# Altium schematic symbol library Analog.SchLib: 17 symbols
Pins are listed as number, name and electrical type; pins without a type are passive.

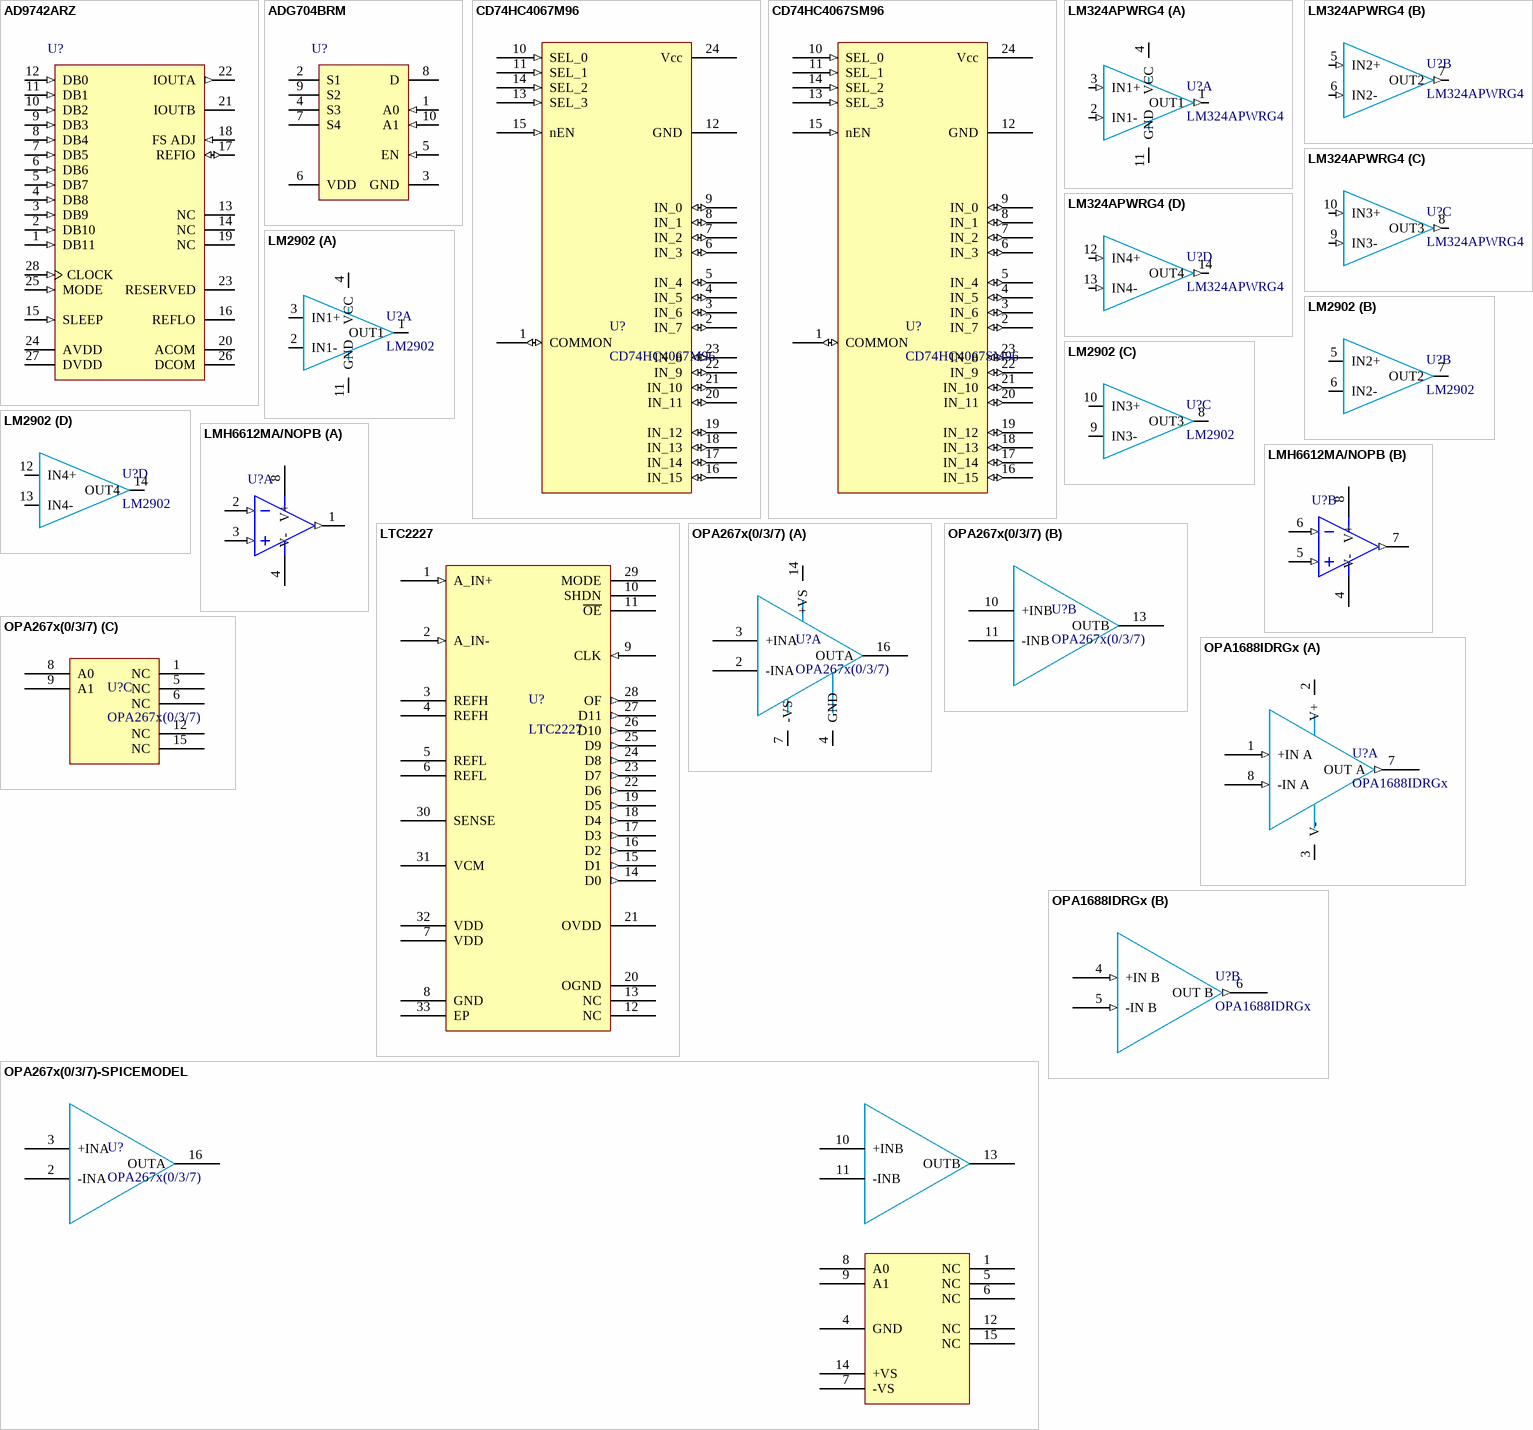
[diagram p0: symbols AD9742ARZ to OPA1688IDRGx]

## AD9742ARZ
designator U?
Single 12-Bit TxDAC, 210 Msps, -40 to +85 degC, RW-28, Pb-Free, Tube; Generic Part Number: AD9742; Manufacturer: Analog Devices; PartNumber: AD9742ARZ; # DAC Outputs: 1; Max V+: 3.6V; Op Pwr Diss: 145mW; Resolution (Bits): 12; Settling Time: 11ns; Single Supply: NO; DatasheetVersion: Rev.B; PackageVersion: 060706-A; PackageReference: RW-28; PackageDescription: 28-Lead Standard Small Outline Package [SOIC_W]; Supplier 1: Digi-Key; Supplier Part Number 1: AD9742ARZ-ND; Supplier 2: Mouser; Supplier Part Number 2: 584-AD9742ARZ; Packing: Tube; RoHS: Y; Mounting Technology: Surface Mount; Code_JEDEC: MS-013-AE; ComponentLink1Description: Manufacturer URL; ComponentLink1URL: http://www.analog.com/en/index.html; ComponentLink2Description: Datasheet; ComponentLink2URL: http://www.analog.com/static/imported-files/data_sheets/AD9742.pdf; ComponentLink3Description: Product URL; ComponentLink3URL: http://www.analog.com/en/digital-to-analog-converters/da-converters/ad9742/products/product.html
footprint RW-28_M (SOIC, 28-Leads, Body 17.9x7.5mm, Pitch 1.27mm, IPC Low Density)
pins: 1 DB11 (in) "Most Significant Data Bit (MSB).", 2 DB10 (in) "Data Bit 10", 3 DB9 (in) "Data Bit 9", 4 DB8 (in) "Data Bit 8", 5 DB7 (in) "Data Bit 7", 6 DB6 (in) "Data Bit 6", 7 DB5 (in) "Data Bit 5", 8 DB4 (in) "Data Bit 4", 9 DB3 (in) "Data Bit 3", 10 DB2 (in) "Data Bit 2", 11 DB1 (in) "Data Bit 1", 12 DB0 (in) "Least Significant Data Bit (LSB).", 13 NC "No Internal Connection.", 14 NC "No Internal Connection.", 15 SLEEP (in) "Power-Down Control Input. Active high. Contains active pull-down circuit; it may be left unterminated if not used.", 16 REFLO "Reference Ground when Internal 1.2 V Reference Used. Connect to AVDD to disable internal reference.", 17 REFIO (io) "Reference Input/Output. Serves as reference input when internal reference disabled (i.e., tie REFLO to AVDD). Serves as 1.2 V reference output when internal reference activated (i.e., tie REFLO to ACOM). Requires 0.1 uF (See Datasheet)", 18 FS ADJ (in) "Full-Scale Current Output Adjust.", 19 NC "No Internal Connection.", 20 ACOM (power) "Analog Common.", 21 IOUTB "Complementary DAC Current Output. Full-scale current when all data bits are 0s.", 22 IOUTA (out) "DAC Current Output. Full-scale current when all data bits are 1s.", 23 RESERVED "Reserved. Do not connect to common or supply.", 24 AVDD (power) "Analog Supply Voltage (3.3 V).", 25 MODE (in) "Selects Input Data Format. Connect to DCOM for straight binary, DVDD for twos complement.", 26 DCOM (power) "Digital Common.", 27 DVDD (power) "Digital Supply Voltage (3.3 V).", 28 CLOCK (in) "Clock Input. Data latched on positive edge of clock."

## ADG704BRM
designator U?
CMOS Low Voltage 4 Ohm, 4-Channel Multiplexer, -40 to 85 degC, 10-pin SOP (RM-10), Tube; Manufacturer: Analog Devices; PartNumber: ADG704BRM; Bandwidth (Hz): 200M; Max Analog Signal Range: 0 to Vdd; Ron (ohms): 4; Supply V Guar Performance: Single_(+3.3V), Single_(+3V), Single_(+5V); DatasheetVersion: Rev. A; PackageVersion: Aug-05; PackageReference: RM-10; PackageDescription: 10-Pin Mini Small Outline Package, Body 3 x 3 mm, Pitch 0.5 mm; Packing: Tube; Mounting Technology: Surface Mount; Code_JEDEC: MO-187-BA; ComponentLink1Description: Manufacturer URL; ComponentLink1URL: http://www.analog.com/en/index.html; ComponentLink2Description: Datasheet; ComponentLink2URL: http://www.analog.com/static/imported-files/data_sheets/ADG704.pdf; ComponentLink3Description: Package Specification; ComponentLink3URL: http://www.analog.com/static/imported-files/packages/PKG_PDF/MSOP%28RM%29/RM_10.pdf; Supplier 1: Digi-Key; Supplier Part Number 1: ADG704BRMZ-REELCT-ND; Supplier 2: Digi-Key; Supplier Part Number 2: ADG704BRMZ-REEL7CT-ND
footprint ADI-RM-10_N (SOP, 10-Leads, Body 3x3mm, Pitch 0.5mm, IPC Medium Density)
footprint ADI-RM-10_L (SOP, 10-Leads, Body 3x3mm, Pitch 0.5mm, IPC High Density)
footprint ADI-RM-10_M (SOP, 10-Leads, Body 3x3mm, Pitch 0.5mm, IPC Low Density)
pins: 1 A0 (in) "Logic control input.", 2 S1 "Source terminal. May be an input or output.", 3 GND (power) "Ground (0 V) reference.", 4 S3 "Source terminal. May be an input or output.", 5 EN (in) "Logic control input.", 6 VDD (power) "Most positive power supply potential.", 7 S4 "Source terminal. May be an input or output.", 8 D "Drain terminal. May be an input or output.", 9 S2 "Source terminal. May be an input or output.", 10 A1 (in) "Logic control input."

## CD74HC4067M96
designator U?
16:1 Analog Multiplexer
footprint CD74HC4067M96 (SOIC, 24-Leads, Body 15.6x7.6mm (max), Pitch 1.27mm, IPC Medium Density)
pins: 1 COMMON (io), 2 IN_7 (io), 3 IN_6 (io), 4 IN_5 (io), 5 IN_4 (io), 6 IN_3 (io), 7 IN_2 (io), 8 IN_1 (io), 9 IN_0 (io), 10 SEL_0 (in), 11 SEL_1 (in), 12 GND, 13 SEL_3 (in), 14 SEL_2 (in), 15 nEN (in), 16 IN_15 (io), 17 IN_14 (io), 18 IN_13 (io), 19 IN_12 (io), 20 IN_11 (io), 21 IN_10 (io), 22 IN_9 (io), 23 IN_8 (io), 24 Vcc (power)

## CD74HC4067SM96
designator U?
16:1 Analog Multiplexer, TSSOP
footprint CD74HC7067SM96 - SOP65P780X200-24M (SOP, 24-Leads, Body 8.20x5.30mm, Pitch 0.65mm, IPC Low Density)
pins: 1 COMMON (io), 2 IN_7 (io), 3 IN_6 (io), 4 IN_5 (io), 5 IN_4 (io), 6 IN_3 (io), 7 IN_2 (io), 8 IN_1 (io), 9 IN_0 (io), 10 SEL_0 (in), 11 SEL_1 (in), 12 GND, 13 SEL_3 (in), 14 SEL_2 (in), 15 nEN (in), 16 IN_15 (io), 17 IN_14 (io), 18 IN_13 (io), 19 IN_12 (io), 20 IN_11 (io), 21 IN_10 (io), 22 IN_9 (io), 23 IN_8 (io), 24 Vcc (power)

## LM324APWRG4
designator U?
Quad Op Amp, 1.2MHz GBW, Rail-To-Rail, Unity Gain Stable; Supplier 1: Digi-Key; Supplier Part Number 1: 497-5831-1-ND; Supplier 2: Arrow; Supplier Part Number 2: kcukb6eEdPZnFyyQZg6o_H0a3uSSk36WcdUz9bD5I_s
footprint TSV994 - TSOP65P640X120-14N (TSOP, 14-Leads, Body 5.00x4.40mm, Pitch 0.65mm, IPC Medium Density)
simulation model LMX24_LM2902 (Model Description)
part A pins: 1 OUT1 (out), 2 IN1- (in), 3 IN1+ (in), 4 VCC (power), 11 GND
part B pins: 5 IN2+ (in), 6 IN2- (in), 7 OUT2 (out)
part C pins: 8 OUT3 (out), 9 IN3- (in), 10 IN3+ (in)
part D pins: 12 IN4+ (in), 13 IN4- (in), 14 OUT4 (out)

## LM2902
designator U?
Quad Op Amp, 1.3MHz GBW, 1.5mA Iq; Supplier 1: Digi-Key; Supplier Part Number 1: 497-1557-1-ND; Supplier 2: Arrow; Supplier Part Number 2: TIXsWa_K9KWKR9FupLiCiI8YUJJkDQVhJaEjFo9D4rQ
footprint LM2902 - SOIC127P600X175-14N (SOIC, 14-Leads, Body 8.65x3.90mm, Pitch 1.27mm, IPC Medium Density)
simulation model LM2902 (OpAmp)
part A pins: 1 OUT1, 2 IN1-, 3 IN1+, 4 VCC, 11 GND
part B pins: 5 IN2+, 6 IN2-, 7 OUT2
part C pins: 8 OUT3, 9 IN3-, 10 IN3+
part D pins: 12 IN4+, 13 IN4-, 14 OUT4

## LMH6612MA/NOPB
designator U?
Single Supply, Dual 345 MHz Rail-to-Rail Output Amplifier, 8-pin Narrow SOIC, Pb-Free; PartNumber: LMH6612MA/NOPB; Manufacturer: National Semiconductor; PackageTopMarking: NSZXTT*LMH66*12MA; PowerWise: Y; CompType: Amplifiers; DatasheetVersion: Jan-2010; PackageVersion: revM, May-2009; PackageReference: M08A; PackageDescription: SOIC Narrow, 4.9 x 3.9 x 1.45mm, 8 Lead, 1.27mm Pitch; RoHS: Y; PinCount: 8; High-Reliability: Y; Code_JEDEC: MS-012-AA; Code_IPC: SOIC127P600-8; ComponentLink1Description: Manufacturer URL; ComponentLink1URL: http://www.national.com/; ComponentLink2Description: LMH6612 Datasheet; ComponentLink2URL: http://www.national.com/ds/LM/LMH6612.pdf; ComponentLink3Description: LMH6612 Web Page; ComponentLink3URL: http://www.national.com/pf/LM/LMH6612.html; ComponentLink4Description: M08A Package Page; ComponentLink4URL: http://www.national.com/packaging/folders/m08a.html; Supplier 1: Arrow; Supplier 2: Digi-Key; Supplier Part Number 2: 296-46310-1-ND
footprint M08A_M (SOIC, 8-Leads, Body 4.9x3.9mm, Pitch 1.27mm, IPC Low Density)
pins on every part: 4 V- (power), 8 V+ (power)
part A pins: 1 OUTA (out), 2 INA- (in), 3 INA+ (in)
part B pins: 5 INB+ (in), 6 INB- (in), 7 OUTB (out)

## LTC2227
designator U?
12-Bit, 40MSPS 3V ADC, Parallel Interface; Supplier 1: Arrow; Supplier 2: Digi-Key; Supplier Part Number 2: LTC2227CUH#PBF-ND
footprint LTC2227 - QFN50P500X500X80_HS-33M (QFN, 32-Leads, Body 5.00x5.00mm, Pitch 0.50mm, Thermal Pad 3.30x3.30mm, IPC Low Density)
pins: 1 A_IN+ (in), 2 A_IN- (in), 3 REFH, 4 REFH, 5 REFL, 6 REFL, 7 VDD (power), 8 GND, 9 CLK (in), 10 SHDN, 11 ~{OE}, 12 NC, 13 NC, 14 D0 (out), 15 D1 (out), 16 D2 (out), 17 D3 (out), 18 D4 (out), 19 D5 (out), 20 OGND, 21 OVDD (power), 22 D6 (out), 23 D7 (out), 24 D8 (out), 25 D9 (out), 26 D10 (out), 27 D11 (out), 28 OF (out), 29 MODE, 30 SENSE, 31 VCM, 32 VDD (power), 33 EP

## OPA267x(0/3/7)
designator U?
Dual, High Output Current Operational Amplifier
footprint OPA2670 - QFN65P400X400X100_HS-17M (QFN, 16-Leads, Body 4.00x4.00mm, Pitch 0.65mm, Thermal Pad 2.16x2.16mm, IPC Low Density)
simulation model OPA2673_Model (Model Description)
part A pins: 2 -INA, 3 +INA, 4 GND, 7 -VS, 14 +VS, 16 OUTA
part B pins: 10 +INB, 11 -INB, 13 OUTB
part C pins: 1 NC, 5 NC, 6 NC, 8 A0, 9 A1, 12 NC, 15 NC

## OPA267x(0/3/7)-SPICEMODEL
designator U?, comment OPA267x(0/3/7)
NOTE: This is not a real part. Use for simulation modeling only. / High Output Current Operational Amplifier
simulation model OPA2673_Model (Model Description)
pins: 1 NC, 2 -INA, 3 +INA, 4 GND, 5 NC, 6 NC, 7 -VS, 8 A0, 9 A1, 10 +INB, 11 -INB, 12 NC, 13 OUTB, 14 +VS, 15 NC, 16 OUTA

## OPA1688IDRGx
designator U?
36V, 10MHz, Low Distortion High Drive Rail-to-Rail Output Audio Operational Amplifiers; Supplier 1: Arrow Electronics; Supplier 2: Mouser; Supplier Part Number 2: 595-OPA1688IDRGR; Supplier Part Number 1: OPA1688IDRGR
footprint OPA1688 - SON50P300X80_HS-9M (SON, 8-Leads, Body 3.00x3.00mm, Pitch 0.50mm, Thermal Pad 2.00x1.20mm, IPC Low Density)
simulation model OPA168x (Model Description)
part A pins: 1 +IN A (in), 2 V+, 3 V-, 7 OUT A (out), 8 -IN A (in)
part B pins: 4 +IN B (in), 5 -IN B (in), 6 OUT B (out)

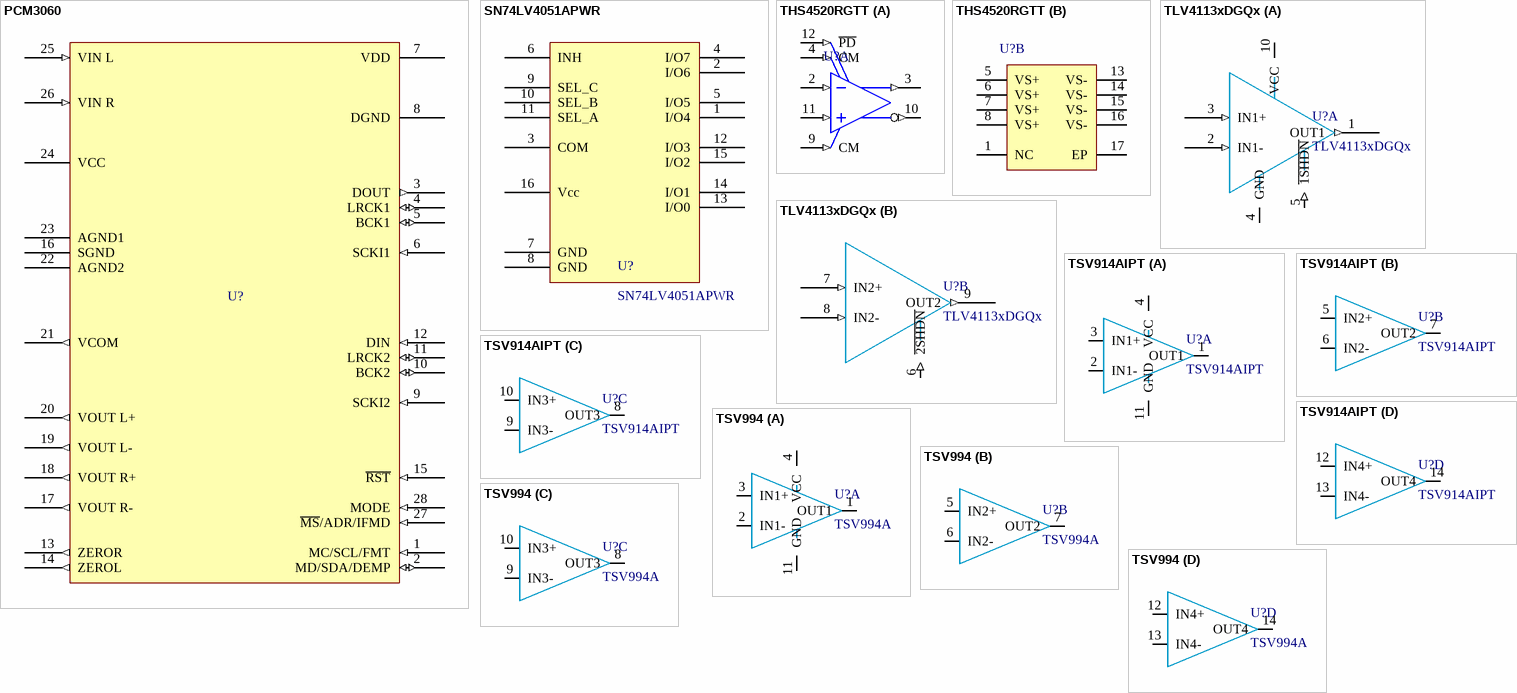
[diagram p1: symbols PCM3060 to TSV994]

## PCM3060
designator U?
24-BIT, 96/192-kHz ASYNCHRONOUS STEREO AUDIO CODEC
footprint PCM3060 - TSOP65P640X120-28M (TSOP, 28-Leads, Body 9.70x4.40mm, Pitch 0.65mm, IPC Low Density)
pins: 1 MC/SCL/FMT (in), 2 MD/SDA/DEMP (io), 3 DOUT (out), 4 LRCK1 (io), 5 BCK1 (io), 6 SCKI1 (in), 7 VDD, 8 DGND, 9 SCKI2 (in), 10 BCK2 (io), 11 LRCK2 (io), 12 DIN (in), 13 ZEROR (out), 14 ZEROL (out), 15 ~{RST} (in), 16 SGND, 17 VOUT R- (out), 18 VOUT R+ (out), 19 VOUT L- (out), 20 VOUT L+ (out), 21 VCOM (out), 22 AGND2, 23 AGND1, 24 VCC, 25 VIN L (in), 26 VIN R (in), 27 ~{MS}/ADR/IFMD (in), 28 MODE (in)

## SN74LV4051APWR
designator U?
8:1 Analog Multiplexer; Supplier 1: Mouser; Supplier Part Number 1: 595-SN74LV4051APWR; Supplier 2: Digi-Key; Supplier Part Number 2: 296-3829-1-ND; Supplier 3: Arrow; Supplier Part Number 3: Mi2rx5S6m_3THV1hF9fIFjpagdh6aAcig84X7QfKttM
footprint SN74LV4051A - TSOP65P640X120-16N (TSOP, 16-Leads, Body 5.00x4.40mm, Pitch 0.65mm, IPC Medium Density)
pins: 1 I/O4, 2 I/O6, 3 COM, 4 I/O7, 5 I/O5, 6 INH, 7 GND, 8 GND, 9 SEL_C, 10 SEL_B, 11 SEL_A, 12 I/O3, 13 I/O0, 14 I/O1, 15 I/O2, 16 Vcc

## THS4520RGTT
designator U?
Rail-to-Rail Output Wideband Fully Differential Amplifier, 3 to 5.25 V, -40 to 85 degC, 16-pin QFN (RGT16), Green (RoHS & no Sb/Br); Manufacturer: Texas Instruments; PartNumber: THS4520RGTT; 2nd Harmonic(dBc): 115; 3rd Harmonic(dBc): 123; @ MHz: 0.1; BW @ Acl(MHz): 620; Io(Typ)(mA): 105; Iq per channel(Max)(mA): 15.3; Number of Channels: 1; Rail-Rail: Out; Settling Time (0.1%)(Typ)(ns): 7; Slew Rate(Typ)(V/us): 570; Vio(Max)(mV): 2.5; Vn at Flatband(Typ)(nV/rtHz): 2; Vs(Max)(V): 5.25; Vs(Min)(V): 3; DatasheetVersion: SLOS503B; PackageVersion: 4203495/H, 10/2011; PackageReference: RGT16-1450X1450TP; PackageDescription: 16-Pin Plastic Flat Pack, Body 3 x 3 mm, Pitch 0.5 mm; Supplier 1: Digi-Key; Supplier Part Number 1: 296-20774-2-ND; Supplier 2: Digi-Key; Supplier Part Number 2: 296-20774-1-ND; Supplier 3: Digi-Key; Supplier Part Number 3: 296-20774-6-ND; Supplier 4: Newark; Supplier Part Number 4: 18M3154; Supplier 5: Newark; Supplier Part Number 5: 28X4464; Supplier 6: Mouser; Supplier Part Number 6: 595-THS4520RGTT; Eco-Plan: Green (RoHS & no Sb/Br); Offset Voltage Drift (+/-)(Max)(uV/Degrees Celsius: 1; SubFamily: Fully Differential Amplifier; Mounting Technology: Surface Mount; Code_JEDEC: MO-220; ComponentLink1Description: Manufacturer URL; ComponentLink1URL: http://www.ti.com/; ComponentLink2Description: Datasheet; ComponentLink2URL: http://www.ti.com/general/docs/lit/getliterature.tsp?genericPartNumber=THS4520&fileType=pdf; ComponentLink3Description: Package Specification; ComponentLink3URL: http://www.ti.com/litv/pdf/mpqf119g
footprint TI-RGT16-1450X1450TP_V (QFN, 16-Leads, Body 3x3mm, Pitch 0.5mm, Thermal Pad 1.45x1.45mm)
simulation model THS4520 (Op Amp)
part A pins: 2 VIN- (in) "Inverting amplifier input", 3 VOUT+ (out) "Noninverting amplifier output", 4 CM (in) "Common-mode voltage input", 9 CM (in) "Common-mode voltage input", 10 VOUT- (out) "Inverted amplifier output", 11 VIN+ (in) "Noninverting amplifier input", 12 ~{PD} (in) "Powerdown, P\D\ = logic low puts part into low power mode, P\D\ = logic high or open for normal operation. If the PD pin is open (unterminated) the device will default to the enabled state."
part B pins: 1 NC "No internal connection", 5 VS+ (power) "Positive amplifier power supply input", 6 VS+ (power) "Positive amplifier power supply input", 7 VS+ (power) "Positive amplifier power supply input", 8 VS+ (power) "Positive amplifier power supply input", 13 VS- (power) "Negative amplifier power-supply input", 14 VS- (power) "Negative amplifier power-supply input", 15 VS- (power) "Negative amplifier power-supply input", 16 VS- (power) "Negative amplifier power-supply input", 17 EP

## TLV4113xDGQx
designator U?
Dual, High Output Drive Operational Amplifier with Shutdown (DGQ package: MSOP10); Supplier 1: Digi-Key; Supplier 2: Mouser; Supplier 3: Digi-Key; Supplier 4: Arrow Electronics; Supplier Part Number 3: 296-10721-1-ND; Supplier Part Number 2: 595-TLV4113MDGQREP; Supplier Part Number 1: 296-22431-1-ND; Supplier Part Number 4: TLV4113IDGQ
footprint TLV4113xDGQx - TSSOP50P490X110_HS-11M (TSSOP, 10-Leads, Body 3.00x3.00mm, Pitch 0.50mm, Thermal Pad 1.89x1.83mm, IPC Low Density)
simulation model TLV4111 (OpAmp)
part A pins: 1 OUT1 (out), 2 IN1- (in), 3 IN1+ (in), 4 GND, 5 ~{1SHDN} (in), 10 VCC
part B pins: 6 ~{2SHDN} (in), 7 IN2+ (in), 8 IN2- (in), 9 OUT2 (out)

## TSV914AIPT
designator U?
Quad Op Amp, 8MHz GBW, Rail-To-Rail, Unity Gain Stable; Supplier 1: Digi-Key; Supplier Part Number 1: 497-5831-1-ND; Supplier 2: Arrow; Supplier Part Number 2: kcukb6eEdPZnFyyQZg6o_H0a3uSSk36WcdUz9bD5I_s
footprint TSV994 - TSOP65P640X120-14N (TSOP, 14-Leads, Body 5.00x4.40mm, Pitch 0.65mm, IPC Medium Density)
part A pins: 1 OUT1, 2 IN1-, 3 IN1+, 4 VCC, 11 GND
part B pins: 5 IN2+, 6 IN2-, 7 OUT2
part C pins: 8 OUT3, 9 IN3-, 10 IN3+
part D pins: 12 IN4+, 13 IN4-, 14 OUT4

## TSV994
designator U?, comment TSV994A
Quad Op Amp, 20MHz GBW, Rail-To-Rail; Supplier 1: Digi-Key; Supplier Part Number 1: 497-5837-1-ND; Supplier 2: Arrow; Supplier Part Number 2: x_xFZ3ZBUi-EWv0NMsDarqwjRzWmTfbT9RFqXXnmNbA
footprint TSV994 - TSOP65P640X120-14N (TSOP, 14-Leads, Body 5.00x4.40mm, Pitch 0.65mm, IPC Medium Density)
simulation model TSV99X (OpAmp)
part A pins: 1 OUT1, 2 IN1-, 3 IN1+, 4 VCC, 11 GND
part B pins: 5 IN2+, 6 IN2-, 7 OUT2
part C pins: 8 OUT3, 9 IN3-, 10 IN3+
part D pins: 12 IN4+, 13 IN4-, 14 OUT4